# EAGLE library part AVR-MODULE (library personal)
dual DIP AVR module
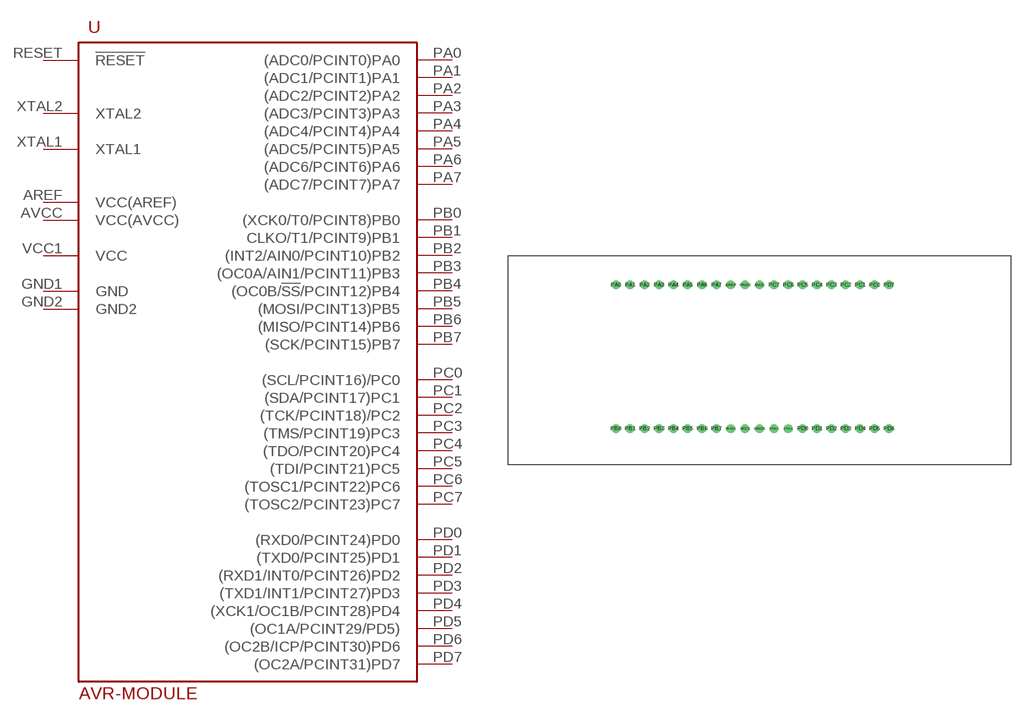
[diagram p7: symbol with the pads of AVR-MODULE; footprint AVR-MODULE]

Designator prefix -

## AVR-MODULE  [AVR-MODULE]
AREF  VCC(AREF)
AVCC  VCC(AVCC)
GND1  GND
GND2  GND2
PA0  (ADC0/PCINT0)PA0
PA1  (ADC1/PCINT1)PA1
PA2  (ADC2/PCINT2)PA2
PA3  (ADC3/PCINT3)PA3
PA4  (ADC4/PCINT4)PA4
PA5  (ADC5/PCINT5)PA5
PA6  (ADC6/PCINT6)PA6
PA7  (ADC7/PCINT7)PA7
PB0  (XCK0/T0/PCINT8)PB0
PB1  CLKO/T1/PCINT9)PB1
PB2  (INT2/AIN0/PCINT10)PB2
PB3  (OC0A/AIN1/PCINT11)PB3
PB4  (OC0B/!SS!/PCINT12)PB4
PB5  (MOSI/PCINT13)PB5
PB6  (MISO/PCINT14)PB6
PB7  (SCK/PCINT15)PB7
PC0  (SCL/PCINT16)/PC0
PC1  (SDA/PCINT17)PC1
PC2  (TCK/PCINT18)/PC2
PC3  (TMS/PCINT19)PC3
PC4  (TDO/PCINT20)PC4
PC5  (TDI/PCINT21)PC5
PC6  (TOSC1/PCINT22)PC6
PC7  (TOSC2/PCINT23)PC7
PD0  (RXD0/PCINT24)PD0
PD1  (TXD0/PCINT25)PD1
PD2  (RXD1/INT0/PCINT26)PD2
PD3  (TXD1/INT1/PCINT27)PD3
PD4  (XCK1/OC1B/PCINT28)PD4
PD5  (OC1A/PCINT29/PD5)
PD6  (OC2B/ICP/PCINT30)PD6
PD7  (OC2A/PCINT31)PD7
RESET  !RESET
VCC1  VCC
XTAL1  XTAL1
XTAL2  XTAL2

## Footprint AVR-MODULE (pad centres in mm)
drill 1 round: AREF -5.08,12.7; AVCC 0,12.7; GND1 0,-12.7; GND2 -2.54,12.7; PA0 -25.4,12.7; PA1 -22.86,12.7; PA2 -20.32,12.7; PA3 -17.78,12.7; PA4 -15.24,12.7; PA5 -12.7,12.7; PA6 -10.16,12.7; PA7 -7.62,12.7; PB0 -25.4,-12.7; PB1 -22.86,-12.7; PB2 -20.32,-12.7; PB3 -17.78,-12.7; PB4 -15.24,-12.7; PB5 -12.7,-12.7; PB6 -10.16,-12.7; PB7 -7.62,-12.7; PC0 20.32,12.7; PC1 17.78,12.7; PC2 15.24,12.7; PC3 12.7,12.7; PC4 10.16,12.7; PC5 7.62,12.7; PC6 5.08,12.7; PC7 2.54,12.7; PD0 7.62,-12.7; PD1 10.16,-12.7; PD2 12.7,-12.7; PD3 15.24,-12.7; PD4 17.78,-12.7; PD5 20.32,-12.7; PD6 22.86,-12.7; PD7 22.86,12.7; RESET -5.08,-12.7; VCC1 -2.54,-12.7; XTAL1 5.08,-12.7; XTAL2 2.54,-12.7